# Altium schematic symbol library LM339N.SchLib: 1 symbol
Pins are listed as number, name and electrical type; pins without a type are passive.

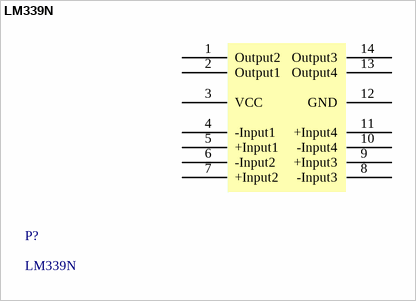
[diagram p0: symbol LM339N]

## LM339N
designator P?
电压比较器
footprint LM339N (电压比较器)
pins: 1 Output2, 2 Output1, 3 VCC, 4 -Input1, 5 +Input1, 6 -Input2, 7 +Input2, 8 -Input3, 9 +Input3, 10 -Input4, 11 +Input4, 12 GND, 13 Output4, 14 Output3